# Altium integrated library ASDMB-33.000MHZ-LY-T.IntLib: 1 symbol
Pins are listed as number, name and electrical type; pins without a type are passive.

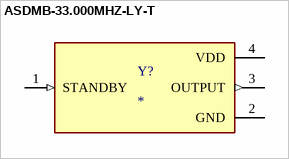
[diagram p0: symbol ASDMB-33.000MHZ-LY-T]

## ASDMB-33.000MHZ-LY-T
designator Y?
MP: ASDMB-33.000MHZ-LY-T; Price: None; Availability: Unavailable; Value: *; Package: None
footprint XTAL_ASDMB-33.000MHZ-LY-T
pins: 1 STANDBY (in), 2 GND (power), 3 OUTPUT (out), 4 VDD (power)